# Altium schematic symbol library Integrated Circuits.SchLib: 13 symbols
Pins are listed as number, name and electrical type; pins without a type are passive.

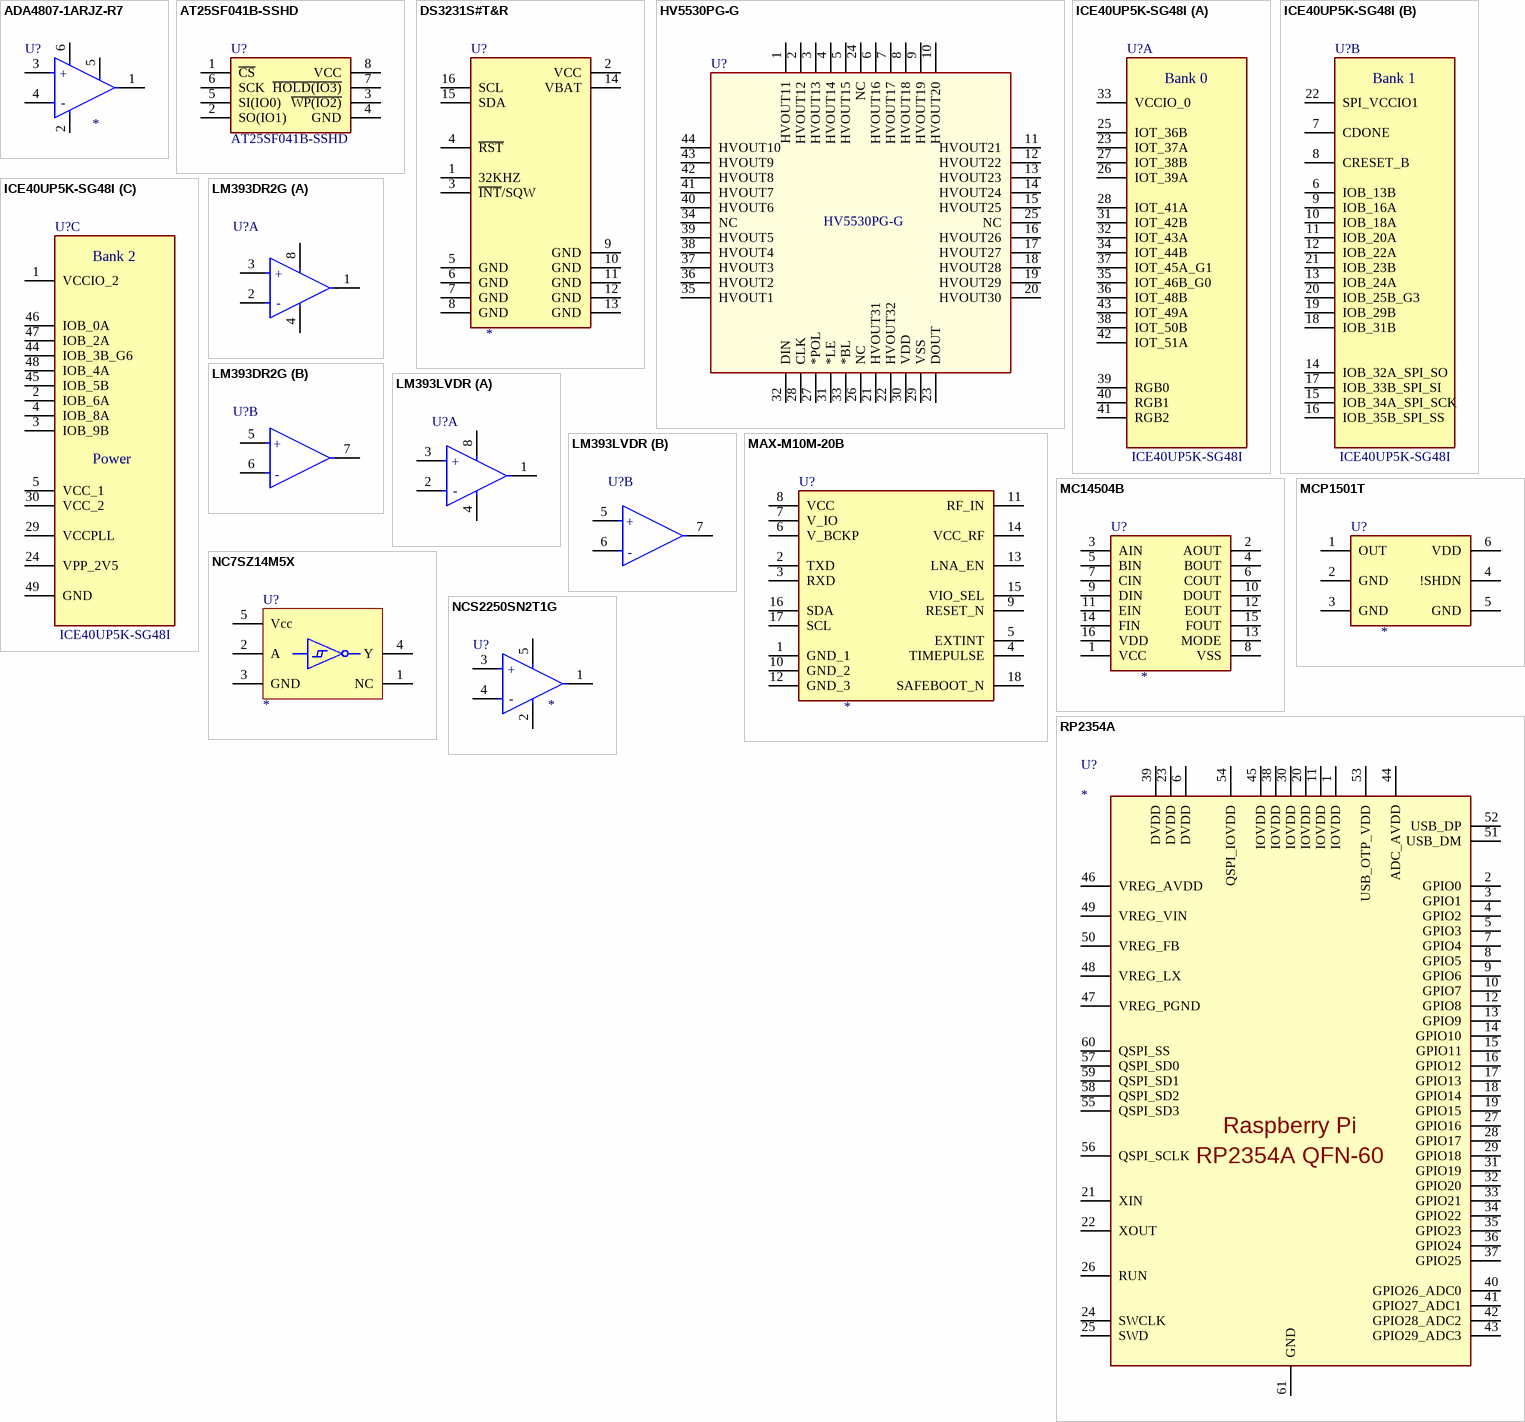
[diagram p0: symbols ADA4807-1ARJZ-R7 to RP2354A]

## ADA4807-1ARJZ-R7
designator U?
Voltage Feedback Amplifier 1 Circuit Rail-to-Rail SOT-23-6
footprint SOT-23-6
pins: 1 OUT1, 2 VS-, 3 IN1+, 4 IN1-, 5 !DISABLE, 6 V+
text: +; -

## AT25SF041B-SSHD
designator U?
FLASH - NOR Memory IC 4Mbit SPI - Quad I/O 108 MHz 8-SOIC
footprint SOIC-8
pins: 1 ~{CS}, 2 SO(IO1), 3 ~{WP(IO2)}, 4 GND, 5 SI(IO0), 6 SCK, 7 ~{HOLD(IO3)}, 8 VCC

## DS3231S#T&R
designator U?
Real Time Clock (RTC) IC Clock/Calendar I2C, 2-Wire Serial 16-SOIC (0.295", 7.50mm Width)
footprint SOIC-16 WIDE (SOIC-16 Wide (Default) Variation)
pins: 1 32KHZ, 2 VCC, 3 ~{INT}/SQW, 4 ~{RST}, 5 GND, 6 GND, 7 GND, 8 GND, 9 GND, 10 GND, 11 GND, 12 GND, 13 GND, 14 VBAT, 15 SDA, 16 SCL

## HV5530PG-G
designator U?
Shift Shift Register 1 Element 32 Bit 44-PQFP (10x10)
footprint PQFP-44 (44-lead PQFP ()
pins: 1 HVOUT11, 2 HVOUT12, 3 HVOUT13, 4 HVOUT14, 5 HVOUT15, 6 HVOUT16, 7 HVOUT17, 8 HVOUT18, 9 HVOUT19, 10 HVOUT20, 11 HVOUT21, 12 HVOUT22, 13 HVOUT23, 14 HVOUT24, 15 HVOUT25, 16 HVOUT26, 17 HVOUT27, 18 HVOUT28, 19 HVOUT29, 20 HVOUT30, 21 HVOUT31, 22 HVOUT32, 23 DOUT, 24 NC, 25 NC, 26 NC, 27 *POL, 28 CLK, 29 VSS, 30 VDD, 31 *LE, 32 DIN, 33 *BL, 34 NC, 35 HVOUT1, 36 HVOUT2, 37 HVOUT3, 38 HVOUT4, 39 HVOUT5, 40 HVOUT6, 41 HVOUT7, 42 HVOUT8, 43 HVOUT9, 44 HVOUT10

## ICE40UP5K-SG48I
designator U?
FPGA - Field Programmable Gate Array iCE40-UltraPlus, 5280 LUTs, 1.2V
footprint QFN-48 (7x7mm 48-Pin Quad Flat No Lead Package 0.5mm pitch)
part A pins: 23 IOT_37A, 25 IOT_36B, 26 IOT_39A, 27 IOT_38B, 28 IOT_41A, 31 IOT_42B, 32 IOT_43A, 33 VCCIO_0, 34 IOT_44B, 35 IOT_46B_G0, 36 IOT_48B, 37 IOT_45A_G1, 38 IOT_50B, 39 RGB0, 40 RGB1, 41 RGB2, 42 IOT_51A, 43 IOT_49A
part B pins: 6 IOB_13B, 7 CDONE, 8 CRESET_B, 9 IOB_16A, 10 IOB_18A, 11 IOB_20A, 12 IOB_22A, 13 IOB_24A, 14 IOB_32A_SPI_SO, 15 IOB_34A_SPI_SCK, 16 IOB_35B_SPI_SS, 17 IOB_33B_SPI_SI, 18 IOB_31B, 19 IOB_29B, 20 IOB_25B_G3, 21 IOB_23B, 22 SPI_VCCIO1
part C pins: 1 VCCIO_2, 2 IOB_6A, 3 IOB_9B, 4 IOB_8A, 5 VCC_1, 24 VPP_2V5, 29 VCCPLL, 30 VCC_2, 44 IOB_3B_G6, 45 IOB_5B, 46 IOB_0A, 47 IOB_2A, 48 IOB_4A, 49 GND
1 alternate drawing of the same symbol
part A text: Bank 0
part B text: Bank 1
part C text: Bank 2; Power

## LM393DR2G
designator U?  (value not drawn)
Comparator Standard (General Purpose) Open-Collector, Rail-to-Rail 8-SOIC
footprint SOIC-8
part A pins: 1 OUT1, 2 IN1-, 3 IN1+, 4 GND, 8 V+
part B pins: 5 IN2+, 6 IN2-, 7 OUT2
part A text: +; -
part B text: +; -

## LM393LVDR
designator U?  (value not drawn)
Comparator Standard (General Purpose) Open-Drain 8-SOIC
footprint SOIC-8
part A pins: 1 OUT1, 2 IN1-, 3 IN1+, 4 GND, 8 V+
part B pins: 5 IN2+, 6 IN2-, 7 OUT2
part A text: +; -
part B text: +; -

## MAX-M10M-20B
designator U?
RF Receiver BeiDou, Galileo, GLONASS, GNSS, GPS, QZSS, SBAS -165dBm 921.6kbps Not Included
footprint MAX-M10M-20B
pins: 1 GND_1, 2 TXD, 3 RXD, 4 TIMEPULSE, 5 EXTINT, 6 V_BCKP, 7 V_IO, 8 VCC, 9 RESET_N, 10 GND_2, 11 RF_IN, 12 GND_3, 13 LNA_EN, 14 VCC_RF, 15 VIO_SEL, 16 SDA, 17 SCL, 18 SAFEBOOT_N

## MC14504B
designator U?
Voltage Level Translator Unidirectional 1 Circuit 6 Channel 16-SOIC
footprint SOIC-16 (SOIC-16 Narrow Footprint)
pins: 1 VCC, 2 AOUT, 3 AIN, 4 BOUT, 5 BIN, 6 COUT, 7 CIN, 8 VSS, 9 DIN, 10 DOUT, 11 EIN, 12 EOUT, 13 MODE, 14 FIN, 15 FOUT, 16 VDD

## MCP1501T
designator U?
Series Voltage Reference IC Fixed 2.048V V ±0.1% 20 mA SOT-23-6
footprint SOT-23-6 (generic sot-23-6 footprint)
pins: 1 OUT, 2 GND, 3 GND, 4 !SHDN, 5 GND, 6 VDD

## NC7SZ14M5X
designator U?
Inverter IC 1 Channel Schmitt Trigger SOT-23-5
footprint SOT-23-5 (Linear Voltage Regulator IC Positive Fixed 1 Output 300mA SOT-23-5)
pins: 1 NC, 2 A, 3 GND, 4 Y, 5 Vcc

## NCS2250SN2T1G
designator U?
Comparator Standard (General Purpose) Push-Pull, Rail-to-Rail 5-TSOP
footprint SOT-23-5 (Linear Voltage Regulator IC Positive Fixed 1 Output 300mA SOT-23-5)
pins: 1 OUT1, 2 VSS, 3 IN1+, 4 IN1-, 5 VDD
text: +; -

## RP2354A
designator U?
ARM Microcontrollers - 150MHz clock Dual Arm Cortex-M33 cores 520KB RAM 8KB on-chip OTP storage 7" Reel QFN-60
footprint QFN-60 (7x7mm 60 pin Quad Flat No Lead Package 0.4mm Pitch)
pins: 1 IOVDD, 2 GPIO0, 3 GPIO1, 4 GPIO2, 5 GPIO3, 6 DVDD, 7 GPIO4, 8 GPIO5, 9 GPIO6, 10 GPIO7, 11 IOVDD, 12 GPIO8, 13 GPIO9, 14 GPIO10, 15 GPIO11, 16 GPIO12, 17 GPIO13, 18 GPIO14, 19 GPIO15, 20 IOVDD, 21 XIN, 22 XOUT, 23 DVDD, 24 SWCLK, 25 SWD, 26 RUN, 27 GPIO16, 28 GPIO17, 29 GPIO18, 30 IOVDD, 31 GPIO19, 32 GPIO20, 33 GPIO21, 34 GPIO22, 35 GPIO23, 36 GPIO24, 37 GPIO25, 38 IOVDD, 39 DVDD, 40 GPIO26_ADC0, 41 GPIO27_ADC1, 42 GPIO28_ADC2, 43 GPIO29_ADC3, 44 ADC_AVDD, 45 IOVDD, 46 VREG_AVDD, 47 VREG_PGND, 48 VREG_LX, 49 VREG_VIN, 50 VREG_FB, 51 USB_DM, 52 USB_DP, 53 USB_OTP_VDD, 54 QSPI_IOVDD, 55 QSPI_SD3, 56 QSPI_SCLK, 57 QSPI_SD0, 58 QSPI_SD2, 59 QSPI_SD1, 60 QSPI_SS, 61 GND
text: Raspberry Pi; RP2354A QFN-60